# Altium schematic symbol library BTL_SCHLIB.SchLib: 33 symbols
Pins are listed as number, name and electrical type; pins without a type are passive.

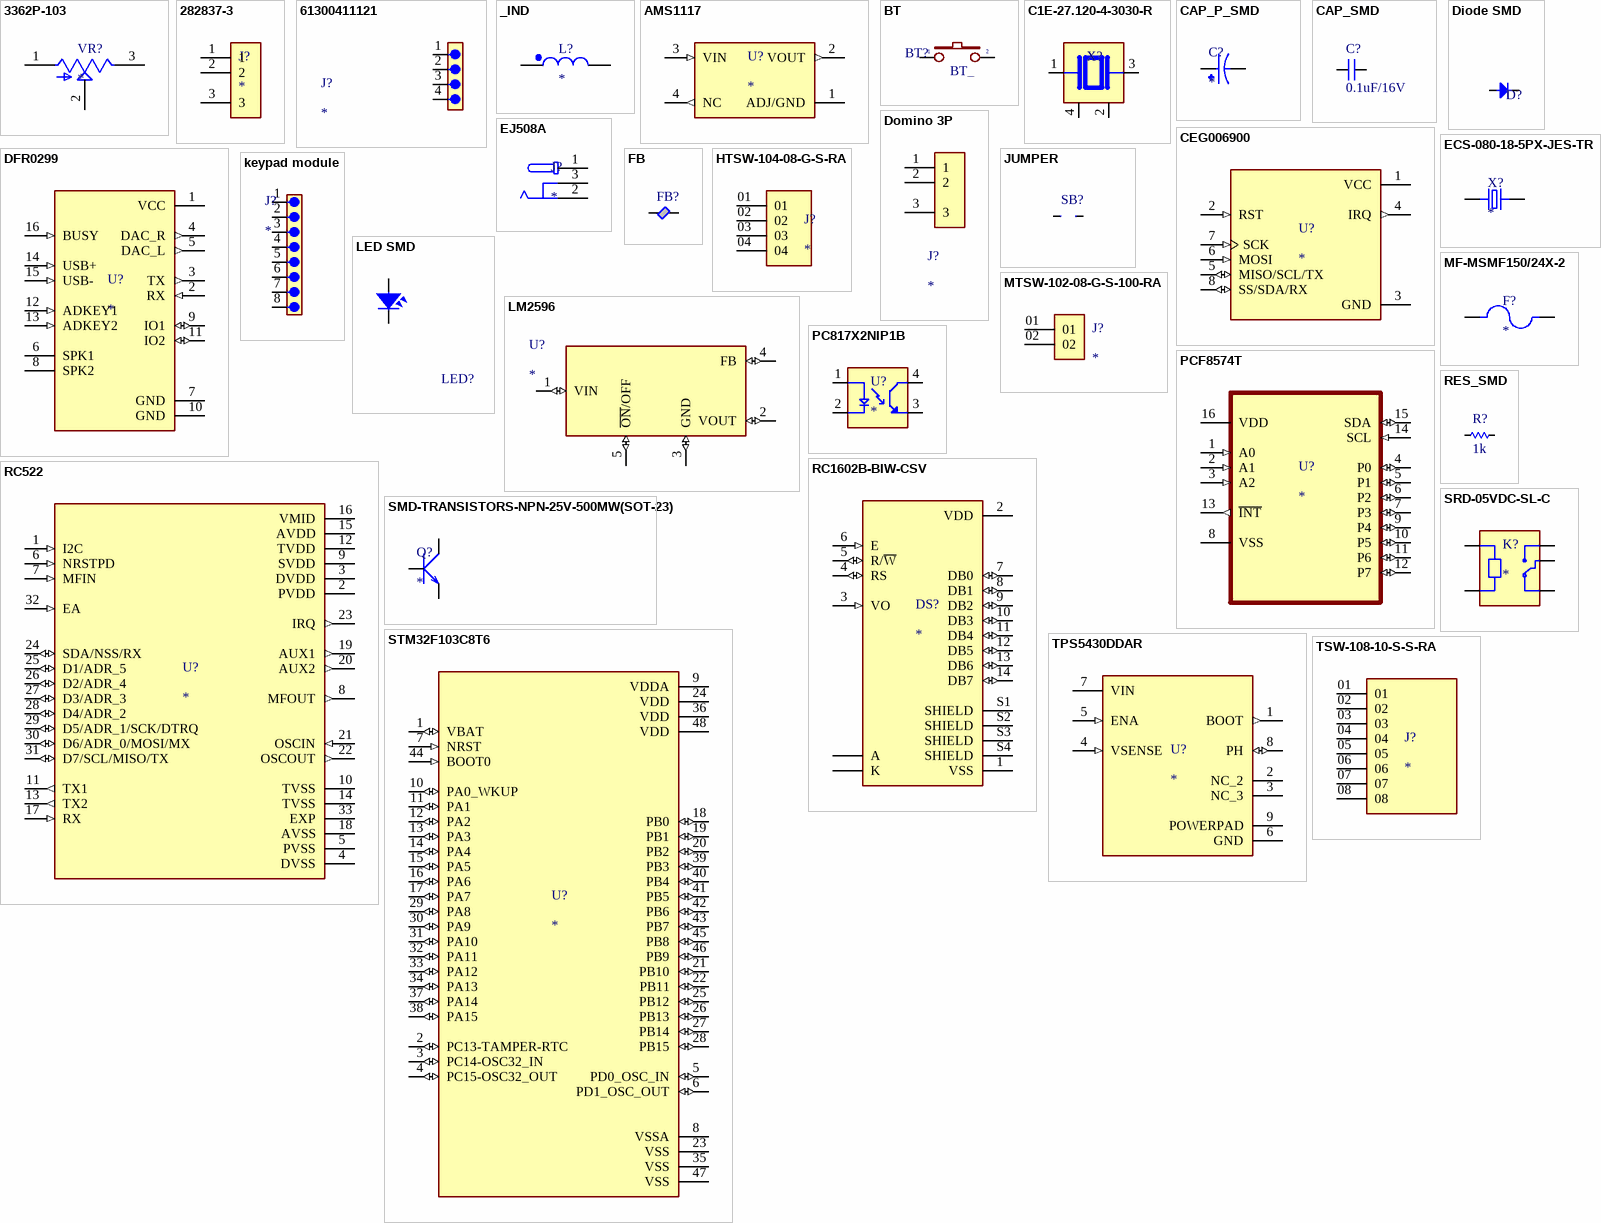
[diagram p0: symbols 3362P-103 to TSW-108-10-S-S-RA]

## 3362P-103
designator VR?
10 kOhms 0.5W, 1/2W PC Pins Through Hole Trimmer Potentiometer Cermet 1 Turn Top Finger Adjustment; MF: Bourns; MP: 3362P-103; SnapEDA_Link: https://www.snapeda.com/parts/3362P-103/Bourns/view-part/?ref=snap; Package: 3362P-1 Bourns Inc.; Value: *; Check_prices: https://www.snapeda.com/parts/3362P-103/Bourns/view-part/?ref=eda
footprint TRIM_3362P-103
pins: 1 CCW, 2 WIPER, 3 CW

## 282837-3
designator J?
TERMI-BLOK PCB MOUNT 3P; MP: 282837-3; Availability: Unavailable; Package: None; Value: *; Price: None
footprint TE_282837-3
pins: 1, 2, 3

## 61300411121
designator J?
CONN HEADER VERT 4POS 2.54MM; MF: WÃ¼rth Elektronik; MP: 61300411121; SnapEDA_Link: https://www.snapeda.com/parts/61300411121/W%25C3%25BCrth+Elektronik+Midcom/view-part/?ref=snap; Package: None; Value: *; Check_prices: https://www.snapeda.com/parts/61300411121/W%25C3%25BCrth+Elektronik+Midcom/view-part/?ref=eda
footprint 61300411121
pins: 1, 2, 3, 4

## _IND
designator L?
footprint IND_C_2012X65 (Chip Inductor, 2-Leads, Body 2.00x1.25mm, IPC High Density)
footprint IND_CDRH127/LDNP-470MC_SUM
footprint SRP7050TA-220M
pins: 1, 2

## AMS1117
designator U?
1A LOW DROPOUT VOLTAGE REGULATOR SOT-223; MF: Advanced Monolithic Systems; MP: AMS1117; SnapEDA_Link: https://www.snapeda.com/parts/AMS1117/Advanced+Monolithic+Systems/view-part/?ref=snap; Package: SOT-223 Seeed Technology; Value: *; Check_prices: https://www.snapeda.com/parts/AMS1117/Advanced+Monolithic+Systems/view-part/?ref=eda
footprint SOT229P700X180-4N
pins: 1 ADJ/GND (power), 2 VOUT (out), 3 VIN (in), 4 NC (out)

## BT
designator BT?, comment BT_
Switch button 2 pin; Value: SW chip 2 pin
footprint SW2-SMD
pins: 1, 2

## C1E-27.120-4-3030-R
designator X?
CRYSTAL 27.1200MHZ 8PF SMD; MP: C1E-27.120-4-3030-R; Package: None; Price: None; Value: *; Availability: Unavailable
footprint XTAL_4-SMD(5x3.2)
pins: 1, 2 GND (power), 3 2, 4 GND (power)

## CAP_P_SMD
designator C?
Capacitor,Alum Electrolytic,Cap 220 uF,Tol 20%,Vol-Rtg 35 VDC,SMT,8x10.5,TR | Panasonic Electronic Components EEE-1VA221UAP; SnapEDA_Link: https://www.snapeda.com/parts/EEE-1VA221UAP/Panasonic/view-part/?ref=snap; Package: RADIAL-2 Panasonic; Value: *; MF: Panasonic; MP: EEE-1VA221UAP; Check_prices: https://www.snapeda.com/parts/EEE-1VA221UAP/Panasonic/view-part/?ref=eda
footprint CAP_P_10x10.5mm
footprint CAP_P_8x10.5mm
pins: 1, 2

## CAP_SMD
designator C?, comment 0.1uF/16V
CAP_Chip; Value: 33pF
footprint CAP_C_1608X80 (Chip Capacitor, 2-Leads, Body 1.60x0.80mm, IPC Medium Density)
pins: 1, 2

## CEG006900
designator U?
RFID RC522 Reader IC Card Module Tags SPI Interface Read and Write; MP: CEG006900; MF: YKS; Value: *; SnapEDA_Link: https://www.snapeda.com/parts/CEG006900/YKS/view-part/?ref=snap; Check_prices: https://www.snapeda.com/parts/CEG006900/YKS/view-part/?ref=eda; Availability: Not in stock; Price: None; Package: None
footprint MODULE_CEG006900
pins: 1 VCC (power), 2 RST (in), 3 GND (power), 4 IRQ (out), 5 MISO/SCL/TX (io), 6 MOSI (in), 7 SCK (in), 8 SS/SDA/RX (io)

## DFR0299
designator U?
- MP3 Player Audio Arduino Platform Evaluation Expansion Board; MF: DFRobot; MP: DFR0299; SnapEDA_Link: https://www.snapeda.com/parts/DFR0299/DFRobot/view-part/?ref=snap; Package: None; Value: *; Check_prices: https://www.snapeda.com/parts/DFR0299/DFRobot/view-part/?ref=eda
footprint MODULE_DFR0299
pins: 1 VCC (power), 2 RX (in), 3 TX (out), 4 DAC_R (out), 5 DAC_L (out), 6 SPK1, 7 GND (power), 8 SPK2, 9 IO1 (io), 10 GND (power), 11 IO2 (io), 12 ADKEY1 (in), 13 ADKEY2 (in), 14 USB+ (in), 15 USB- (in), 16 BUSY (in)

## Diode SMD
designator D?
Default Diode; Code - JEDEC: DO-214-AB; Value: 1N5007; Published: 8-Jun-2000; Revision: July-2002: Re-released for DXP Platform.; Publisher: Altium Limited
footprint DO-214AC_SMA (Molded Diode, 2-Leads, Body 5.20x2.61mm, IPC Medium Density)
pins: 1 K, 2 A

## Domino 3P
designator J?
footprint Terminal Domino 3P
pins: 1, 2, 3

## ECS-080-18-5PX-JES-TR
designator X?
8 MHz Â±20ppm Crystal 18pF 60 Ohms HC-49/US; MF: ECS Inc.; MP: ECS-080-18-5PX-JES-TR; SnapEDA_Link: https://www.snapeda.com/parts/ECS-080-18-5PX-JES-TR/ECS/view-part/?ref=snap; Package: CSM-7X-3L-5G3X-2 ECS; Value: *; Check_prices: https://www.snapeda.com/parts/ECS-080-18-5PX-JES-TR/ECS/view-part/?ref=eda
footprint XTAL_ECS-080-18-5PX-JES-TR
footprint XTAL 8MHz
pins: 1, 2

## EJ508A
designator J?
Power Barrel Connector Jack 2.10mm ID _0.083_, 5.50mm OD _0.217_ Through Hole, Right Angle; MF: MPD; MP: EJ508A; Package: Non-Standard MPD; Value: *; SnapEDA_Link: https://www.snapeda.com/parts/EJ508A/MPD%20%28Memory%20Protection%20Devices%29/view-part/474399/?ref=snap; Price: None; Availability: Unavailable
footprint MPD_EJ508A
pins: 1, 2, 3

## FB
designator FB?, comment L+R  (value not drawn)
FERRITE BEAD
footprint IND_C_2012X65 (Chip Inductor, 2-Leads, Body 2.00x1.25mm, IPC High Density)
pins: 1, 2

## HTSW-104-08-G-S-RA
designator J?
MP: HTSW-104-08-G-S-RA; MF: Samtec; Package: None; Availability: Unavailable; Value: *; Price: None
footprint SAMTEC_HTSW-104-08-G-S-RA
pins: 01, 02, 03, 04

## JUMPER
designator SB?  (value not drawn)
footprint JUMPER_1608
pins: 1, 2

## keypad module
designator J?
8 pins, 1 row, straight, gold plating; MF: Wurth Electronics; MP: 61300811121; SnapEDA_Link: https://www.snapeda.com/parts/61300811121/Wurth+Electronics/view-part/?ref=snap; Package: None; Value: *; Check_prices: https://www.snapeda.com/parts/61300811121/Wurth+Electronics/view-part/?ref=eda
footprint 61300811121
pins: 1, 2, 3, 4, 5, 6, 7, 8

## LED SMD
designator LED?, comment LED  (value not drawn)
LED_Chip; Value: LED 3 - 5 ly 2 Colour
footprint LED-0603-RED
pins: 1, 2

## LM2596
designator U?
Buck Switching Regulator IC Positive Output 5A TO-263-5L; MF: Diodes Incorporated; MP: AP1501K5G13; Package: None; Price: None; Value: *; SnapEDA_Link: https://www.snapeda.com/parts/AP1501K5G13/Diodes+Inc./view-part/?ref=snap; Availability: Unavailable; Check_prices: https://www.snapeda.com/parts/AP1501K5G13/Diodes+Inc./view-part/?ref=eda
footprint XL4015E1
pins: 1 VIN (io), 2 VOUT (io), 3 GND (io), 4 FB (io), 5 ~{ON}/OFF (io), 6 GND (io)

## MF-MSMF150/24X-2
designator F?
Polymeric PTC Resettable Fuse 24V 1.5 A Ih Surface Mount 1812 (4532 Metric), Concave; MP: MF-MSMF150/24X-2; MF: Bourns; Check_prices: https://www.snapeda.com/parts/MF-MSMF150/24X-2/Bourns/view-part/?ref=eda; Value: *; Purchase-URL: https://pricing.snapeda.com/search/part/MF-MSMF150/24X-2/?ref=eda; SnapEDA_Link: https://www.snapeda.com/parts/MF-MSMF150/24X-2/Bourns/view-part/?ref=snap; Package: 1812 Bourns; Digi-Key_Part_Number: MF-MSMF150/24X-2TR-ND
footprint FUSER_MF-MSMF150/24X-2
pins: 1, 2

## MTSW-102-08-G-S-100-RA
designator J?
Connector Header Through Hole, Right Angle 2 position 0.100 (2.54mm); MF: Samtec; MP: MTSW-102-08-G-S-100-RA; SnapEDA_Link: https://www.snapeda.com/parts/MTSW-102-08-G-S-100-RA/Samtec/view-part/?ref=snap; Package: None; Value: *; Check_prices: https://www.snapeda.com/parts/MTSW-102-08-G-S-100-RA/Samtec/view-part/?ref=eda
footprint SAMTEC_MTSW-102-08-G-S-100-RA
pins: 01, 02

## PC817X2NIP1B
designator U?
Optocoupler DC-IN 1-CH Transistor DC-OUT 4-Pin DIP SMD T/R; MF: Sharp Microelectronics; MP: PC817X2NIP1B; SnapEDA_Link: https://www.snapeda.com/parts/PC817X2NIP1B/Sharp+Microelectronics/view-part/?ref=snap; Package: SMD-4 Sharp Microelectronics; Value: *; Check_prices: https://www.snapeda.com/parts/PC817X2NIP1B/Sharp+Microelectronics/view-part/?ref=eda
footprint SOIC254P960X420-4N
pins: 1 A, 2 C, 3 ET, 4 CT

## PCF8574T
designator U?
I/O Expander 8 IÂ²C 100 kHz 20-SSOP; MP: PCF8574T; MF: NXP Semiconductors; Price: None; Availability: In Stock; Package: SOIC-16 NXP Semiconductors; Purchase-URL: https://pricing.snapeda.com/search/part/PCF8574T/?ref=eda; SnapEDA_Link: https://www.snapeda.com/parts/PCF8574T/NXP+Semiconductors/view-part/?ref=snap; Value: *; Check_prices: https://www.snapeda.com/parts/PCF8574T/NXP+Semiconductors/view-part/?ref=eda
footprint SOIC127P1032X265-16N
pins: 1 A0 (in), 2 A1 (in), 3 A2 (in), 4 P0 (io), 5 P1 (io), 6 P2 (io), 7 P3 (io), 8 VSS, 9 P4 (io), 10 P5 (io), 11 P6 (io), 12 P7 (io), 13 ~{INT} (out), 14 SCL (in), 15 SDA (io), 16 VDD (power)

## RC522
designator U?
IC RFID READER 13.56MHZ 32HVQFN; MF: NXP USA Inc.; MP: RC522; SnapEDA_Link: https://www.snapeda.com/parts/RC522/NXP+Semiconductors/view-part/?ref=snap; Package: VFQFN-32 NXP Semiconductors; Value: *; Check_prices: https://www.snapeda.com/parts/RC522/NXP+Semiconductors/view-part/?ref=eda
footprint QFN50P500X500X100-33N
pins: 1 I2C (in), 2 PVDD (power), 3 DVDD (power), 4 DVSS (power), 5 PVSS (power), 6 NRSTPD (in), 7 MFIN (in), 8 MFOUT (out), 9 SVDD (power), 10 TVSS (power), 11 TX1 (out), 12 TVDD (power), 13 TX2 (out), 14 TVSS (power), 15 AVDD (power), 16 VMID (power), 17 RX (in), 18 AVSS (power), 19 AUX1 (out), 20 AUX2 (out), 21 OSCIN (in), 22 OSCOUT (out), 23 IRQ (out), 24 SDA/NSS/RX (io), 25 D1/ADR_5 (io), 26 D2/ADR_4 (io), 27 D3/ADR_3 (io), 28 D4/ADR_2 (io), 29 D5/ADR_1/SCK/DTRQ (io), 30 D6/ADR_0/MOSI/MX (io), 31 D7/SCL/MISO/TX (io), 32 EA (in), 33 EXP (power)

## RC1602B-BIW-CSV
designator DS?
Display: LCD; alphanumeric; STN Negative; 16x2; blue; LED; PIN: 16; MF: Raystar; MP: RC1602B-BIW-CSV; Value: *; SnapEDA_Link: https://www.snapeda.com/parts/RC1602B-BIW-CSV/Raystar/view-part/?ref=snap; Availability: Not in stock; Price: None; Package: None; Check_prices: https://www.snapeda.com/parts/RC1602B-BIW-CSV/Raystar/view-part/?ref=eda
footprint LCD_RC1602B-BIW-CSV
pins: 1 VSS (power), 2 VDD (power), 3 VO (in), 4 RS (io), 5 R/~{W} (io), 6 E (in), 7 DB0 (io), 8 DB1 (io), 9 DB2 (io), 10 DB3 (io), 11 DB4 (io), 12 DB5 (io), 13 DB6 (io), 14 DB7 (io), 15 A (power), 16 K (power), S1 SHIELD, S2 SHIELD, S3 SHIELD, S4 SHIELD

## RES_SMD
designator R?, comment 1k
RES
footprint RES_C_1608X60 (Chip Resistor, 2-Leads, Body 1.63x0.83mm, IPC High Density)
pins: 1, 2

## SMD-TRANSISTORS-NPN-25V-500MW(SOT-23)
designator Q?
Bipolar (BJT) Transistor NPN 25 V 500 mA 150MHz 300 mW Surface Mount SOT-23; MF: UMW; MP: S8050; Purchase-URL: https://pricing.snapeda.com/search/part/S8050/?ref=eda; Check_prices: https://www.snapeda.com/parts/S8050/Umwelt+Sensor+Teknik/view-part/?ref=eda; SnapEDA_Link: https://www.snapeda.com/parts/S8050/Umwelt+Sensor+Teknik/view-part/?ref=snap; Price: None; Availability: In Stock; Package: None; Value: *
footprint SOT-23
pins: 1 B, 2 E, 3 C

## SRD-05VDC-SL-C
designator K?
5V Trigger Relay Module For Arduino And Raspberry Pi 5V Trigger Relay Module For Arduino And Raspberry Pi; MF: Songle Relay; MP: SRD-05VDC-SL-C; Check_prices: https://www.snapeda.com/parts/SRD-05VDC-SL-C/Songle+Relay/view-part/?ref=eda; Value: *; Availability: Not in stock; Price: None; Package: NON STANDARD-5 Songle Relay; SnapEDA_Link: https://www.snapeda.com/parts/SRD-05VDC-SL-C/Songle+Relay/view-part/?ref=snap
footprint RELAY_SRD-05VDC-SL-C
pins: A1, A2, COM, NC, NO

## STM32F103C8T6
designator U?
ARM® Cortex®-M3 STM32F1 Microcontroller IC 32-Bit 72MHz 64KB (64K x 8) FLASH 48-LQFP (7x7); MF: STMicroelectronics; MP: STM32F103C8T6; SnapEDA_Link: https://www.snapeda.com/parts/STM32F103C8T6/STMicroelectronics/view-part/?ref=snap; Package: LQFP-48 STMicroelectronics; Value: *; Check_prices: https://www.snapeda.com/parts/STM32F103C8T6/STMicroelectronics/view-part/?ref=eda
footprint QFP50P900X900X160-48N
pins: 1 VBAT (io), 2 PC13-TAMPER-RTC (io), 3 PC14-OSC32_IN (io), 4 PC15-OSC32_OUT (io), 5 PD0_OSC_IN (io), 6 PD1_OSC_OUT (io), 7 NRST (in), 8 VSSA (power), 9 VDDA (power), 10 PA0_WKUP (io), 11 PA1 (io), 12 PA2 (io), 13 PA3 (io), 14 PA4 (io), 15 PA5 (io), 16 PA6 (io), 17 PA7 (io), 18 PB0 (io), 19 PB1 (io), 20 PB2 (io), 21 PB10 (io), 22 PB11 (io), 23 VSS (power), 24 VDD (power), 25 PB12 (io), 26 PB13 (io), 27 PB14 (io), 28 PB15 (io), 29 PA8 (io), 30 PA9 (io), 31 PA10 (io), 32 PA11 (io), 33 PA12 (io), 34 PA13 (io), 35 VSS (power), 36 VDD (power), 37 PA14 (io), 38 PA15 (io), 39 PB3 (io), 40 PB4 (io), 41 PB5 (io), 42 PB6 (io), 43 PB7 (io), 44 BOOT0 (in), 45 PB8 (io), 46 PB9 (io), 47 VSS (power), 48 VDD (power)

## TPS5430DDAR
designator U?
5.5V to 36V Input, 3A, 500kHz Step-Down Converter; MF: Texas Instruments; MP: TPS5430DDAR; Package: HSOIC-8 Texas Instruments; Check_prices: https://www.snapeda.com/parts/TPS5430DDAR/Texas+Instruments/view-part/?ref=eda; Value: *; Purchase-URL: https://pricing.snapeda.com/search/part/TPS5430DDAR/?ref=eda; Availability: In Stock; SnapEDA_Link: https://www.snapeda.com/parts/TPS5430DDAR/Texas+Instruments/view-part/?ref=snap; Price: None
footprint CONV_TPS5430DDAR
pins: 1 BOOT (out), 2 NC_2, 3 NC_3, 4 VSENSE (in), 5 ENA (in), 6 GND (power), 7 VIN (power), 8 PH (io), 9 POWERPAD (power)

## TSW-108-10-S-S-RA
designator J?
Connector Header Through Hole, Right Angle 8 position 0.100 (2.54mm); MF: Samtec; MP: TSW-108-10-S-S-RA; SnapEDA_Link: https://www.snapeda.com/parts/TSW-108-10-S-S-RA/Samtec/view-part/?ref=snap; Package: None; Value: *; Check_prices: https://www.snapeda.com/parts/TSW-108-10-S-S-RA/Samtec/view-part/?ref=eda
footprint SAMTEC_TSW-108-10-S-S-RA
pins: 01, 02, 03, 04, 05, 06, 07, 08